# Altium footprint library CAPACITOR_ELEC_SMD.PcbLib: 2 footprints
Each footprint in its own frame and in the unit in brackets; x right, y up, seen from the top. Pads: shape width x height; smd on the part's side, far side on the other; paste and mask are expansions set on the pad; w line width, h text height; cw(c..) or ccw(c..) is an arc to the next point about the centre after c.
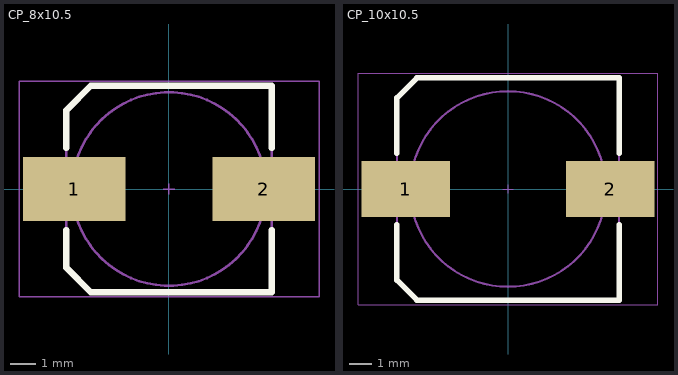
[diagram p0: the footprints below, top view; thin cyan lines are the x and y axes]

## CP_8x10.5 [mm] "Capacitor."
pads (2):
  rect 4x2.5 smd: 1(-3.7,0) 2(3.7,0)
Top Overlay:
  lines w0.25: -4,-1.6 -4,-3.075 -3.05,-4.025 4,-4.025 4,-1.6 ; -4,1.6 -4,3.075 -3.05,4.025 4,4.025 4,1.6
Mechanical 13:
  circle w0.1: c0,0 r3.775
  lines w0.1: -4,-3.075 -3.05,-4.025 4,-4.025 4,4.025 -3.05,4.025 -4,3.075 -4,-3.075
Mechanical 15:
  lines w0.05: -0.225,0 0.225,0 ; 0,-0.2 0,0.2 ; -5.85,-4.2 5.85,-4.2 5.85,4.2 -5.85,4.2 -5.85,-0.025 -5.85,-4.2
3D body "CP_Elec_8x10.5.step": height 10.5, standoff 0, extent -4.75,-4.15 4.75,4.15

## CP_10x10.5 [mm] "Capacitor."
pads (2):
  rect 4x2.5 smd: 1(-4.6,0) 2(4.6,0)
Top Overlay:
  lines w0.25: -5,-1.6 -5,-4.1 -4.1,-5 5,-5 5,-1.6 ; -5,1.6 -5,4.1 -4.1,5 5,5 5,1.6
Mechanical 13:
  circle w0.1: c0,0 r4.401
  lines w0.1: -5,-4.1 -5,1.3 -5,4.1 -4.1,5 5,5 5,-5 -4.1,-5 -5,-4.1
Mechanical 15:
  lines w0.05: -0.225,0 0.225,0 ; 0,-0.2 0,0.2 ; -6.75,-5.2 -6.75,0 -6.75,5.2 6.75,5.2 6.75,-5.2 -6.75,-5.2
3D body "CP_Elec_10x10.5.step": height 10.5, standoff 0, extent -6,-5.15 6,5.15